# Altium schematic symbol library SPAN02A-12.SchLib: 1 symbol
Pins are listed as number, name and electrical type; pins without a type are passive.

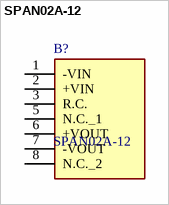
[diagram p0: symbol SPAN02A-12]

## SPAN02A-12
designator B?
Isolated DC/DC Converters 9-18Vin 12Vout 167mA SIP8 Reg Iso; Manufacturer_Name: Mean Well; Geometry.Height: 11.6mm; Mouser Part Number: 709-SPAN02A-12; Mouser Price/Stock: https://www.mouser.co.uk/ProductDetail/MEAN-WELL/SPAN02A-12?qs=5aG0NVq1C4wxQqKsG84AkQ%3D%3D; Manufacturer_Part_Number: SPAN02A-12; Datasheet Link: https://datasheet.datasheetarchive.com/originals/distributors/DKDS-2/37032.pdf
footprint SPAN02A12
pins: 1 -VIN, 2 +VIN, 3 R.C., 5 N.C._1, 6 +VOUT, 7 -VOUT, 8 N.C._2